# Altium schematic symbol library CrystalOscillator.SchLib: 7 symbols
Pins are listed as number, name and electrical type; pins without a type are passive.

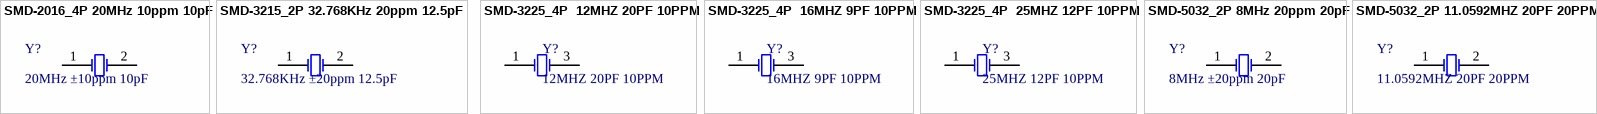
[diagram p0: symbols SMD-2016_4P 20MHz 10ppm 10pF to SMD-5032_2P 11.0592MHZ 20PF 20PPM]

## SMD-2016_4P 20MHz 10ppm 10pF
designator Y?, comment 20MHz ±10ppm 10pF
SMD Crystal; ComponentLink1Description: 供应商链接; ComponentLink1URL: https://item.szlcsc.com/249643.html; Package: SMD-3215_2P; Supplier: LC; SuppliersPartNumber: C255878
footprint SMD-2016_4P
pins: 1 OSC1, 2 OSC2

## SMD-3215_2P 32.768KHz 20ppm 12.5pF
designator Y?, comment 32.768KHz ±20ppm 12.5pF
贴片晶振; ComponentLink1Description: 供应商链接; ComponentLink1URL: http://www.szlcsc.com/product/details_33310.html; Package: SMD-3215_2P; Supplier: LC; SuppliersPartNumber: C32346
footprint SMD-3215_2P FC - 135
pins: 1 OSC1, 2 OSC2

## SMD-3225_4P  12MHZ 20PF 10PPM
designator Y?, comment 12MHZ 20PF 10PPM
贴片晶振; ComponentLink1Description: 供应商链接; ComponentLink1URL: http://www.szlcsc.com/product/details_9522.html; Package: SMD-3225_4P; Supplier: LC; SuppliersPartNumber: C9002
footprint SMD-3225_4P
pins: 1 OSC1, 3 OSC2

## SMD-3225_4P  16MHZ 9PF 10PPM
designator Y?, comment 16MHZ 9PF 10PPM
贴片晶振; ComponentLink1Description: 供应商链接; ComponentLink1URL: http://www.szlcsc.com/product/details_14393.html; Package: SMD-3225_4P; Supplier: LC; SuppliersPartNumber: C13738
footprint SMD-3225_4P
pins: 1 OSC1, 3 OSC2

## SMD-3225_4P  25MHZ 12PF 10PPM
designator Y?, comment 25MHZ 12PF 10PPM
贴片晶振; ComponentLink1Description: 供应商链接; ComponentLink1URL: http://www.szlcsc.com/product/details_9526.html; Package: SMD-3225_4P; Supplier: LC; SuppliersPartNumber: C9006
footprint SMD-3225_4P
pins: 1 OSC1, 3 OSC2

## SMD-5032_2P 8MHz 20ppm 20pF
designator Y?, comment 8MHz ±20ppm 20pF
贴片晶振; ComponentLink1Description: 供应商链接; ComponentLink1URL: http://www.szlcsc.com/product/details_117214.html; Package: SMD-5032_2P; Supplier: LC; SuppliersPartNumber: C115962
footprint SMD-5032_2P
pins: 1 OSC1, 2 OSC2

## SMD-5032_2P 11.0592MHZ 20PF 20PPM
designator Y?, comment 11.0592MHZ 20PF 20PPM
贴片晶振; ComponentLink1Description: 供应商链接; ComponentLink1URL: http://www.szlcsc.com/product/details_53039.html; Package: SMD-5032_2P; Supplier: LC; SuppliersPartNumber: C52026
footprint SMD-5032_2P
pins: 1 OSC1, 2 OSC2